# EAGLE library part JTAG (library PPMK_MSP430FR6989)
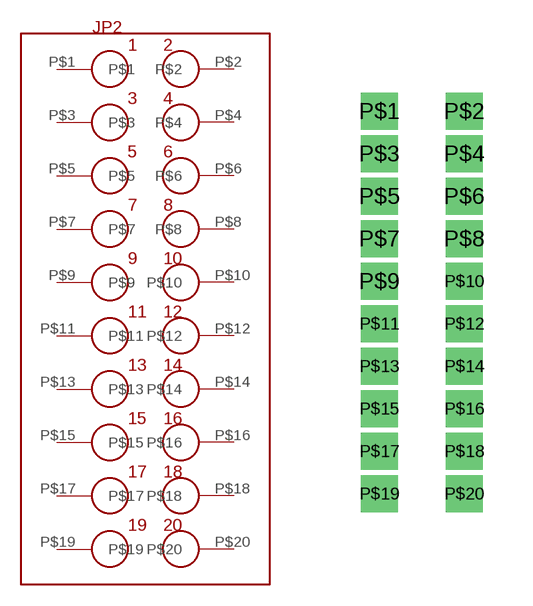
[diagram p8: symbol with the pads of JTAG; footprint JTAG]

Designator prefix -

## JTAG  [JTAG]
P$1  P$1
P$2  P$2
P$3  P$3
P$4  P$4
P$5  P$5
P$6  P$6
P$7  P$7
P$8  P$8
P$9  P$9
P$10  P$10
P$11  P$11
P$12  P$12
P$13  P$13
P$14  P$14
P$15  P$15
P$16  P$16
P$17  P$17
P$18  P$18
P$19  P$19
P$20  P$20

## Footprint JTAG (pad centres in mm)
drill 0.6 square: P$1 -6.35,5.08; P$2 -3.81,5.08; P$3 -6.35,3.81; P$4 -3.81,3.81; P$5 -6.35,2.54; P$6 -3.81,2.54; P$7 -6.35,1.27; P$8 -3.81,1.27; P$9 -6.35,0; P$10 -3.81,0; P$11 -6.35,-1.27; P$12 -3.81,-1.27; P$13 -6.35,-2.54; P$14 -3.81,-2.54; P$15 -6.35,-3.81; P$16 -3.81,-3.81; P$17 -6.35,-5.08; P$18 -3.81,-5.08; P$19 -6.35,-6.35; P$20 -3.81,-6.35